# EAGLE library part TPS22995H-Q1 (library ts_keyboards)
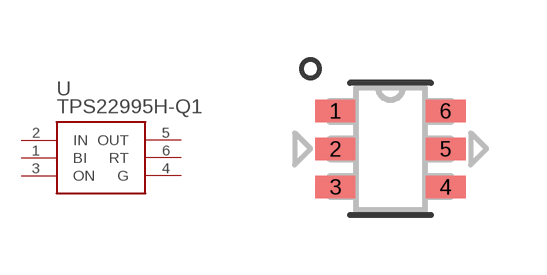
[diagram p6: symbol with the pads of SOT-23-THIN-6_DDC_TEX; footprint SOT-23-THIN-6_DDC_TEX]

Designator prefix U

## TPS22995H-Q1 (COPYRIGHT: Copyright (C) 2023 Ultra Librarian. All rights reserved.; MANUFACTURER_PART_NUMBER: TPS22995HQDDCRQ1; MFR_NAME: Texas Instruments; TYPE: Power Management)  [SOT-23-THIN-6_DDC_TEX]
1  BI  pwr
2  IN  pwr
3  ON  out
4  G  pas
5  OUT  pwr
6  RT  in

## Footprint SOT-23-THIN-6_DDC_TEX (pad centres in mm)
smd 1.003 x 0.559: 1 -1.378,0.95; 2 -1.378,0; 3 -1.378,-0.95; 4 1.378,-0.95; 5 1.378,0; 6 1.378,0.95